# Altium schematic symbol library CON10X2.SchLib: 1 symbol
Pins are listed as number, name and electrical type; pins without a type are passive.

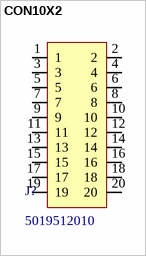
[diagram p0: symbol CON10X2]

## CON10X2
designator J?, comment 5019512010
PDF: http://www.molex.com/pdm_docs/sd/5019512010_sd.pdf; BUY_LINK: http://www.digikey.com/product-detail/en/5019512010/WM9061CT-ND/3197447; PRICE: 1.62000; ID: 5019512010
footprint 5019512010
pins: 1, 2, 3, 4, 5, 6, 7, 8, 9, 10, 11, 12, 13, 14, 15, 16, 17, 18, 19, 20